# Altium footprint library ASEM1-1.8432MHZ-LC-T.PcbLib: 1 footprints
Each footprint in its own frame and in the unit in brackets; x right, y up, seen from the top. Pads: shape width x height; smd on the part's side, far side on the other; paste and mask are expansions set on the pad; w line width, h text height; cw(c..) or ccw(c..) is an arc to the next point about the centre after c.
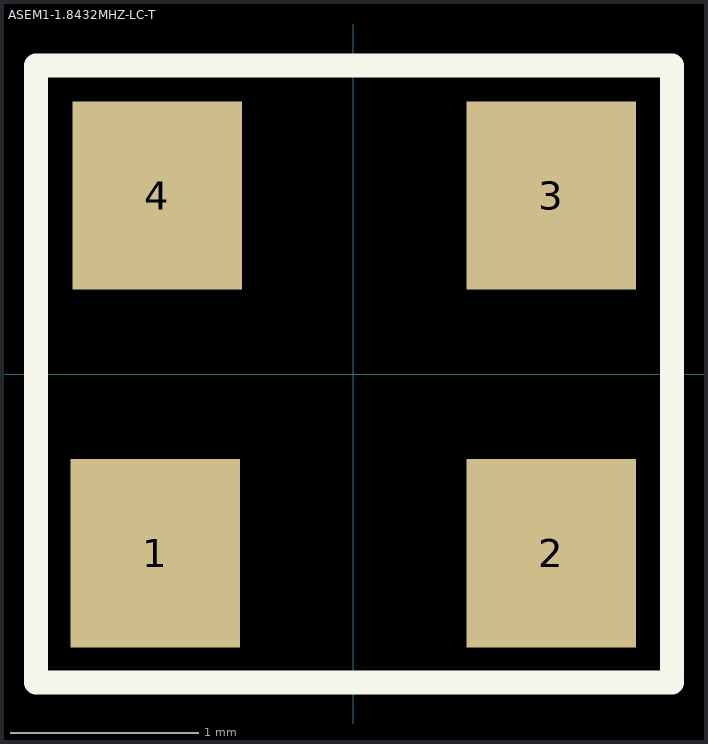
[diagram p0: the footprint, top view; thin cyan lines are the x and y axes]

## ASEM1-1.8432MHZ-LC-T [mm]
pads (4):
  rect 0.9x1 smd: 1(-1.05,-0.95) 2(1.05,-0.95) 3(1.05,0.95) 4(-1.04,0.95)
Top Overlay:
  lines w0.127: -1.685,-1.636 -1.685,1.641 1.693,1.641 1.693,-1.636 -1.685,-1.636
3D body "ASEM.STEP": height 0.86, standoff 0.01, extent -1.6,-1.25 1.6,1.25